# EAGLE library part PINTO (library AHNS10)
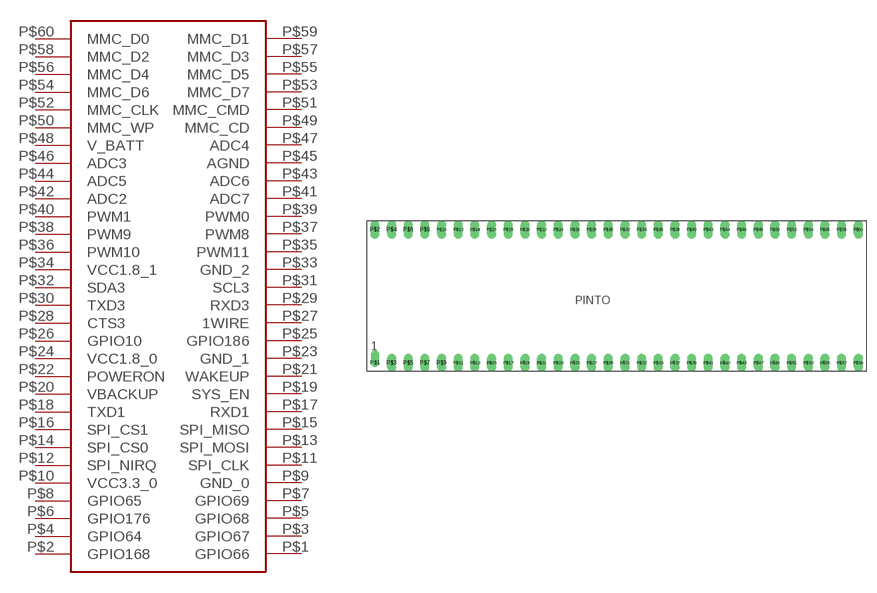
[diagram p4: symbol with the pads of PINTO; footprint PINTO]

Designator prefix -

## PINTO  [PINTO]
P$1  GPIO66
P$2  GPIO168
P$3  GPIO67
P$4  GPIO64
P$5  GPIO68
P$6  GPIO176
P$7  GPIO69
P$8  GPIO65
P$9  GND_0
P$10  VCC3.3_0
P$11  SPI_CLK
P$12  SPI_NIRQ
P$13  SPI_MOSI
P$14  SPI_CS0
P$15  SPI_MISO
P$16  SPI_CS1
P$17  RXD1
P$18  TXD1
P$19  SYS_EN
P$20  VBACKUP
P$21  WAKEUP
P$22  POWERON
P$23  GND_1
P$24  VCC1.8_0
P$25  GPIO186
P$26  GPIO10
P$27  1WIRE
P$28  CTS3
P$29  RXD3
P$30  TXD3
P$31  SCL3
P$32  SDA3
P$33  GND_2
P$34  VCC1.8_1
P$35  PWM11
P$36  PWM10
P$37  PWM8
P$38  PWM9
P$39  PWM0
P$40  PWM1
P$41  ADC7
P$42  ADC2
P$43  ADC6
P$44  ADC5
P$45  AGND
P$46  ADC3
P$47  ADC4
P$48  V_BATT
P$49  MMC_CD
P$50  MMC_WP
P$51  MMC_CMD
P$52  MMC_CLK
P$53  MMC_D7
P$54  MMC_D6
P$55  MMC_D5
P$56  MMC_D4
P$57  MMC_D3
P$58  MMC_D2
P$59  MMC_D1
P$60  MMC_D0

## Footprint PINTO (pad centres in mm)
drill 0.8 offset: P$1 1.27,1.27
drill 0.9 long: P$2 1.27,21.59; P$3 3.81,1.27; P$4 3.81,21.59; P$5 6.35,1.27; P$6 6.35,21.59; P$7 8.89,1.27; P$8 8.89,21.59; P$9 11.43,1.27; P$10 11.43,21.59; P$11 13.97,1.27; P$12 13.97,21.59; P$13 16.51,1.27; P$14 16.51,21.59; P$15 19.05,1.27; P$16 19.05,21.59; P$17 21.59,1.27; P$18 21.59,21.59; P$19 24.13,1.27; P$20 24.13,21.59; P$21 26.67,1.27; P$22 26.67,21.59; P$23 29.21,1.27; P$24 29.21,21.59; P$25 31.75,1.27; P$26 31.75,21.59; P$27 34.29,1.27; P$28 34.29,21.59; P$29 36.83,1.27; P$30 36.83,21.59; P$31 39.37,1.27; P$32 39.37,21.59; P$33 41.91,1.27; P$34 41.91,21.59; P$35 44.45,1.27; P$36 44.45,21.59; P$37 46.99,1.27; P$38 46.99,21.59; P$39 49.53,1.27; P$40 49.53,21.59; P$41 52.07,1.27; P$42 52.07,21.59; P$43 54.61,1.27; P$44 54.61,21.59; P$45 57.15,1.27; P$46 57.15,21.59; P$47 59.69,1.27; P$48 59.69,21.59; P$49 62.23,1.27; P$50 62.23,21.59; P$51 64.77,1.27; P$52 64.77,21.59; P$53 67.31,1.27; P$54 67.31,21.59; P$55 69.85,1.27; P$56 69.85,21.59; P$57 72.39,1.27; P$58 72.39,21.59; P$59 74.93,1.27; P$60 74.93,21.59